# Altium integrated library Capacitor - Ceramic - Sumsung.IntLib: 1421 symbols (part 17 of 22)
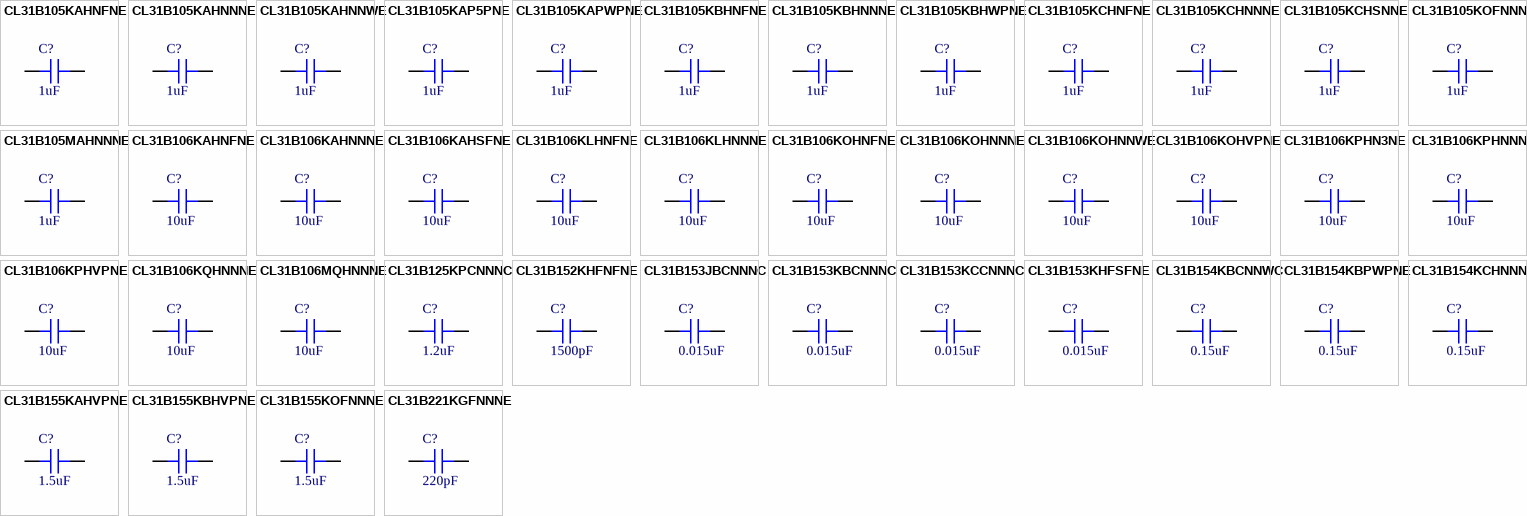
[diagram p51: symbols CL31B105KAHNFNE to CL31B221KGFNNNE]

## CL31B153KHFSFNE
designator C?, comment 0.015uF
CAP CER 0.015UF 630V X7R 1206; Part Number: CL31B153KHFSFNE; Manufacturer: Samsung Electro-Mechanics America, Inc.; TemperatureRange: -55C ~ 125C; Tolerance: 10%; Value: 0.015uF; PartId: 15499; Supplier 1: Digi-Key; Supplier Part Number 1: 1276-3112-2-ND; ComponentLink1Description: Datasheet; ComponentLink1URL: http://www.samsungsem.com/kr/support/library/product-catalog/__icsFiles/afieldfile/2015/11/18/MLCC.pdf; ComponentLink2Description: Digi-Key Listing; ComponentLink2URL: https://www.digikey.com/product-detail/en/samsung-electro-mechanics-america-inc/CL31B153KHFSFNE/1276-3112-2-ND/3888770; TemperatureCoefficient: X7R; Voltage: 630V; Price: 0.076; Device Package: 1206 (3216 Metric)
footprint CAP 1206/3216
pins: 1, 2

## CL31B154KBCNNWC
designator C?, comment 0.15uF
CAP CER 0.15UF 50V X7R 1206; Part Number: CL31B154KBCNNWC; Manufacturer: Samsung Electro-Mechanics America, Inc.; TemperatureRange: -55C ~ 125C; Tolerance: 10%; Value: 0.15uF; PartId: 17272; Supplier 1: Digi-Key; Supplier Part Number 1: 1276-2758-2-ND; ComponentLink1Description: Datasheet; ComponentLink1URL: http://www.samsungsem.com/kr/support/product-search/mlcc/__icsFiles/afieldfile/2016/08/18/S_CL31B154KBCNNWC.pdf; ComponentLink2Description: Digi-Key Listing; ComponentLink2URL: https://www.digikey.com/product-detail/en/samsung-electro-mechanics-america-inc/CL31B154KBCNNWC/1276-2758-2-ND/3888416; TemperatureCoefficient: X7R; Voltage: 50V; Price: 0.0235; Device Package: 1206 (3216 Metric)
footprint CAP 1206/3216 - 1.0MM
pins: 1, 2

## CL31B154KBPWPNE
designator C?, comment 0.15uF
CAP CER 0.15UF 50V X7R 1206; Part Number: CL31B154KBPWPNE; Manufacturer: Samsung Electro-Mechanics America, Inc.; TemperatureRange: -55C ~ 125C; Tolerance: 10%; Value: 0.15uF; PartId: 17761; Supplier 1: Digi-Key; Supplier Part Number 1: 1276-6676-2-ND; ComponentLink1Description: Datasheet; ComponentLink1URL: //media.digikey.com/pdf/Data%20Sheets/Samsung%20PDFs/MLCC_Catalog_2015.pdf; ComponentLink2Description: Digi-Key Listing; ComponentLink2URL: https://www.digikey.com/product-detail/en/samsung-electro-mechanics-america-inc/CL31B154KBPWPNE/1276-6676-2-ND/5961160; TemperatureCoefficient: X7R; Voltage: 50V; Price: 0.0662; Device Package: 1206 (3216 Metric)
footprint CAP 1206/3216 - 1.8MM
pins: 1, 2

## CL31B154KCHNNNE
designator C?, comment 0.15uF
CAP CER 0.15UF 100V X7R 1206; Part Number: CL31B154KCHNNNE; Manufacturer: Samsung Electro-Mechanics America, Inc.; TemperatureRange: -55C ~ 125C; Tolerance: 10%; Value: 0.15uF; PartId: 17964; Supplier 1: Digi-Key; Supplier Part Number 1: 1276-3114-2-ND; ComponentLink1Description: Datasheet; ComponentLink1URL: //media.digikey.com/pdf/Data%20Sheets/Samsung%20PDFs/CL31B154KCHNNNE_Character.pdf; ComponentLink2Description: Digi-Key Listing; ComponentLink2URL: https://www.digikey.com/product-detail/en/samsung-electro-mechanics-america-inc/CL31B154KCHNNNE/1276-3114-2-ND/3888772; TemperatureCoefficient: X7R; Voltage: 100V; Price: 0.0902; Device Package: 1206 (3216 Metric)
footprint CAP 1206/3216 - 1.8MM
pins: 1, 2

## CL31B155KAHVPNE
designator C?, comment 1.5uF
CAP CER 1.5UF 25V X7R 1206; Part Number: CL31B155KAHVPNE; Manufacturer: Samsung Electro-Mechanics America, Inc.; TemperatureRange: -55C ~ 125C; Tolerance: 10%; Value: 1.5uF; PartId: 17583; Supplier 1: Digi-Key; Supplier Part Number 1: 1276-6873-2-ND; ComponentLink1Description: Datasheet; ComponentLink1URL: //media.digikey.com/pdf/Data%20Sheets/Samsung%20PDFs/MLCC_Catalog_2015.pdf; ComponentLink2Description: Digi-Key Listing; ComponentLink2URL: https://www.digikey.com/product-detail/en/samsung-electro-mechanics-america-inc/CL31B155KAHVPNE/1276-6873-2-ND/5961357; TemperatureCoefficient: X7R; Voltage: 25V; Price: 0.0851; Device Package: 1206 (3216 Metric)
footprint CAP 1206/3216 - 1.8MM
pins: 1, 2

## CL31B155KBHVPNE
designator C?, comment 1.5uF
CAP CER 1.5UF 50V X7R 1206; Part Number: CL31B155KBHVPNE; Manufacturer: Samsung Electro-Mechanics America, Inc.; TemperatureRange: -55C ~ 125C; Tolerance: 10%; Value: 1.5uF; PartId: 17748; Supplier 1: Digi-Key; Supplier Part Number 1: 1276-6738-2-ND; ComponentLink1Description: Datasheet; ComponentLink1URL: //media.digikey.com/pdf/Data%20Sheets/Samsung%20PDFs/MLCC_Catalog_2015.pdf; ComponentLink2Description: Digi-Key Listing; ComponentLink2URL: https://www.digikey.com/product-detail/en/samsung-electro-mechanics-america-inc/CL31B155KBHVPNE/1276-6738-2-ND/5961222; TemperatureCoefficient: X7R; Voltage: 50V; Price: 0.1068; Device Package: 1206 (3216 Metric)
footprint CAP 1206/3216 - 1.8MM
pins: 1, 2

## CL31B155KOFNNNE
designator C?, comment 1.5uF
CAP CER 1.5UF 16V X7R 1206; Part Number: CL31B155KOFNNNE; Manufacturer: Samsung Electro-Mechanics America, Inc.; TemperatureRange: -55C ~ 125C; Tolerance: 10%; Value: 1.5uF; PartId: 6185; Supplier 1: Digi-Key; Supplier Part Number 1: 1276-3115-2-ND; ComponentLink1Description: Datasheet; ComponentLink1URL: http://media.digikey.com/pdf/Data%20Sheets/Samsung%20PDFs/CL31B155KOFNNNE_Character.pdf; ComponentLink2Description: Digi-Key listing; ComponentLink2URL: http://digikey.com/product-detail/en/CL31B155KOFNNNE/1276-3115-2-ND/3888773; TemperatureCoefficient: X7R; Voltage: 16V; Price: 0.0886; Type: -; Device Package: 1206 (3216 Metric)
footprint CAP 1206/3216
pins: 1, 2

## CL31B221KGFNNNE
designator C?, comment 220pF
CAP CER 220PF 500V X7R 1206; Part Number: CL31B221KGFNNNE; Manufacturer: Samsung Electro-Mechanics America, Inc.; TemperatureRange: -55C ~ 125C; Tolerance: 10%; Value: 220pF; PartId: 15488; Supplier 1: Digi-Key; Supplier Part Number 1: 1276-3116-2-ND; ComponentLink1Description: Datasheet; ComponentLink1URL: //media.digikey.com/pdf/Data%20Sheets/Samsung%20PDFs/CL31B221KGFNNNE_Spec.pdf; ComponentLink2Description: Digi-Key Listing; ComponentLink2URL: https://www.digikey.com/product-detail/en/samsung-electro-mechanics-america-inc/CL31B221KGFNNNE/1276-3116-2-ND/3888774; TemperatureCoefficient: X7R; Voltage: 500V; Price: 0.1119; Device Package: 1206 (3216 Metric)
footprint CAP 1206/3216
pins: 1, 2

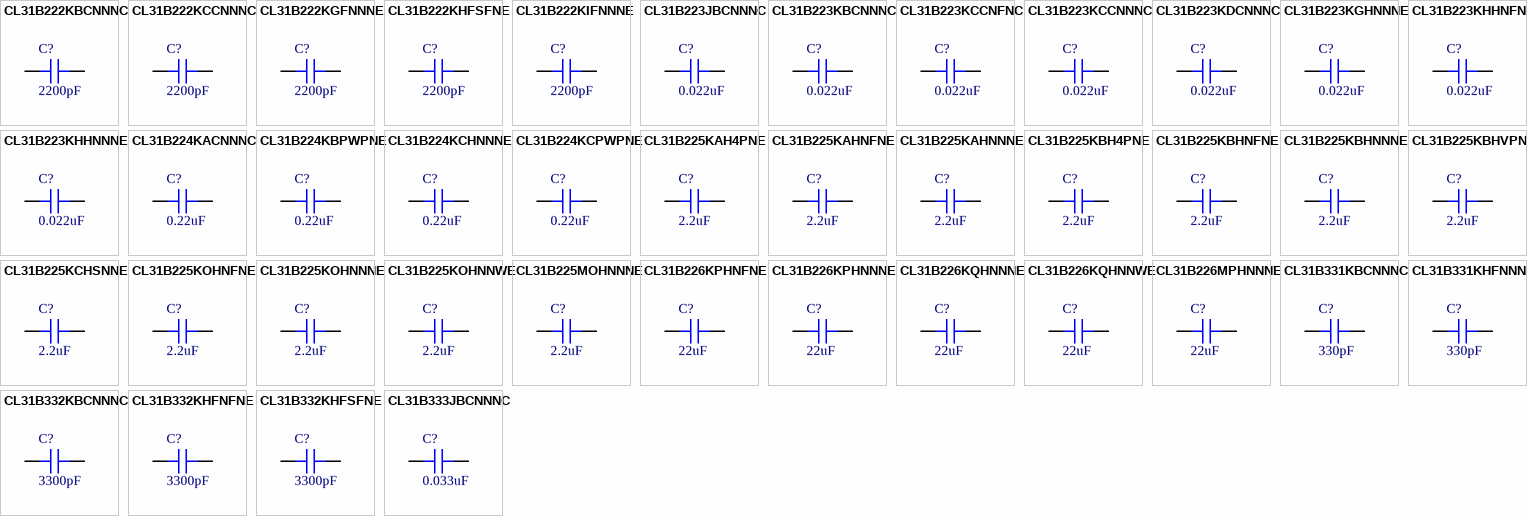
[diagram p27: symbols CL31B222KBCNNNC to CL31B333JBCNNNC]

## CL31B222KBCNNNC
designator C?, comment 2200pF
CAP CER 2200PF 50V X7R 1206; Part Number: CL31B222KBCNNNC; Manufacturer: Samsung Electro-Mechanics America, Inc.; TemperatureRange: -55C ~ 125C; Tolerance: 10%; Value: 2200pF; PartId: 17171; Supplier 1: Digi-Key; Supplier Part Number 1: 1276-1288-2-ND; ComponentLink1Description: Datasheet; ComponentLink1URL: http://www.samsungsem.com/kr/support/product-search/mlcc/__icsFiles/afieldfile/2016/08/18/S_CL31B222KBCNNNC.pdf; ComponentLink2Description: Digi-Key Listing; ComponentLink2URL: https://www.digikey.com/product-detail/en/samsung-electro-mechanics-america-inc/CL31B222KBCNNNC/1276-1288-2-ND/3886946; TemperatureCoefficient: X7R; Voltage: 50V; Price: 0.0325; Device Package: 1206 (3216 Metric)
footprint CAP 1206/3216 - 1.0MM
pins: 1, 2

## CL31B222KCCNNNC
designator C?, comment 2200pF
CAP CER 2200PF 100V X7R 1206; Part Number: CL31B222KCCNNNC; Manufacturer: Samsung Electro-Mechanics America, Inc.; TemperatureRange: -55C ~ 125C; Tolerance: 10%; Value: 2200pF; PartId: 17283; Supplier 1: Digi-Key; Supplier Part Number 1: 1276-2760-2-ND; ComponentLink1Description: Datasheet; ComponentLink1URL: //media.digikey.com/pdf/Data%20Sheets/Samsung%20PDFs/CL31B222KCCNNNC_Spec.pdf; ComponentLink2Description: Digi-Key Listing; ComponentLink2URL: https://www.digikey.com/product-detail/en/samsung-electro-mechanics-america-inc/CL31B222KCCNNNC/1276-2760-2-ND/3888418; TemperatureCoefficient: X7R; Voltage: 100V; Price: 0.0441; Device Package: 1206 (3216 Metric)
footprint CAP 1206/3216 - 1.0MM
pins: 1, 2

## CL31B222KGFNNNE
designator C?, comment 2200pF
CAP CER 2200PF 500V X7R 1206; Part Number: CL31B222KGFNNNE; Manufacturer: Samsung Electro-Mechanics America, Inc.; TemperatureRange: -55C ~ 125C; Tolerance: 10%; Value: 2200pF; PartId: 15434; Supplier 1: Digi-Key; Supplier Part Number 1: 1276-3118-2-ND; ComponentLink1Description: Datasheet; ComponentLink1URL: //media.digikey.com/pdf/Data%20Sheets/Samsung%20PDFs/CL31B222KGFNNNE_Spec.pdf; ComponentLink2Description: Digi-Key Listing; ComponentLink2URL: https://www.digikey.com/product-detail/en/samsung-electro-mechanics-america-inc/CL31B222KGFNNNE/1276-3118-2-ND/3888776; TemperatureCoefficient: X7R; Voltage: 500V; Price: 0.0443; Device Package: 1206 (3216 Metric)
footprint CAP 1206/3216
pins: 1, 2

## CL31B222KHFSFNE
designator C?, comment 2200pF
CAP CER 2200PF 630V X7R 1206; Part Number: CL31B222KHFSFNE; Manufacturer: Samsung Electro-Mechanics America, Inc.; TemperatureRange: -55C ~ 125C; Tolerance: 10%; Value: 2200pF; PartId: 15475; Supplier 1: Digi-Key; Supplier Part Number 1: 1276-3121-2-ND; ComponentLink1Description: Datasheet; ComponentLink1URL: //media.digikey.com/pdf/Data%20Sheets/Samsung%20PDFs/CL31B222KHFSFNE_Character.pdf; ComponentLink2Description: Digi-Key Listing; ComponentLink2URL: https://www.digikey.com/product-detail/en/samsung-electro-mechanics-america-inc/CL31B222KHFSFNE/1276-3121-2-ND/3888779; TemperatureCoefficient: X7R; Voltage: 630V; Price: 0.0345; Device Package: 1206 (3216 Metric)
footprint CAP 1206/3216
pins: 1, 2

## CL31B222KIFNNNE
designator C?, comment 2200pF
CAP CER 2200PF 1KV X7R 1206; Part Number: CL31B222KIFNNNE; Manufacturer: Samsung Electro-Mechanics America, Inc.; TemperatureRange: -55C ~ 125C; Tolerance: 10%; Voltage: 1000V (1kV); Value: 2200pF; PartId: 15461; Supplier 1: Digi-Key; Supplier Part Number 1: 1276-3122-2-ND; ComponentLink1Description: Datasheet; ComponentLink1URL: //media.digikey.com/pdf/Data%20Sheets/Samsung%20PDFs/CL31B222KIFNNNE_Spec.pdf; ComponentLink2Description: Digi-Key Listing; ComponentLink2URL: https://www.digikey.com/product-detail/en/samsung-electro-mechanics-america-inc/CL31B222KIFNNNE/1276-3122-2-ND/3888780; TemperatureCoefficient: X7R; Price: 0.0639; Device Package: 1206 (3216 Metric)
footprint CAP 1206/3216
pins: 1, 2

## CL31B223JBCNNNC
designator C?, comment 0.022uF
CAP CER 0.022UF 50V X7R 1206; Part Number: CL31B223JBCNNNC; Manufacturer: Samsung Electro-Mechanics America, Inc.; TemperatureRange: -55C ~ 125C; Tolerance: 5%; Value: 0.022uF; PartId: 17287; Supplier 1: Digi-Key; Supplier Part Number 1: 1276-2762-2-ND; ComponentLink1Description: Datasheet; ComponentLink1URL: http://www.samsungsem.com/kr/support/product-search/mlcc/__icsFiles/afieldfile/2016/08/18/S_CL31B223JBCNNNC.pdf; ComponentLink2Description: Digi-Key Listing; ComponentLink2URL: https://www.digikey.com/product-detail/en/samsung-electro-mechanics-america-inc/CL31B223JBCNNNC/1276-2762-2-ND/3888420; TemperatureCoefficient: X7R; Voltage: 50V; Price: 0.0365; Device Package: 1206 (3216 Metric)
footprint CAP 1206/3216 - 1.0MM
pins: 1, 2

## CL31B223KBCNNNC
designator C?, comment 0.022uF
CAP CER 0.022UF 50V X7R 1206; Part Number: CL31B223KBCNNNC; Manufacturer: Samsung Electro-Mechanics America, Inc.; TemperatureRange: -55C ~ 125C; Tolerance: 10%; Value: 0.022uF; PartId: 17054; Supplier 1: Digi-Key; Supplier Part Number 1: 1276-1142-2-ND; ComponentLink1Description: Datasheet; ComponentLink1URL: http://www.samsungsem.com/kr/support/product-search/mlcc/__icsFiles/afieldfile/2016/08/18/S_CL31B223KBCNNNC.pdf; ComponentLink2Description: Digi-Key Listing; ComponentLink2URL: https://www.digikey.com/product-detail/en/samsung-electro-mechanics-america-inc/CL31B223KBCNNNC/1276-1142-2-ND/3886800; TemperatureCoefficient: X7R; Voltage: 50V; Price: 0.035; Device Package: 1206 (3216 Metric)
footprint CAP 1206/3216 - 1.0MM
pins: 1, 2

## CL31B223KCCNFNC
designator C?, comment 0.022uF
CAP CER 0.022UF 100V X7R 1206; Part Number: CL31B223KCCNFNC; Manufacturer: Samsung Electro-Mechanics America, Inc.; TemperatureRange: -55C ~ 125C; Tolerance: 10%; Value: 0.022uF; PartId: 17107; Supplier 1: Digi-Key; Supplier Part Number 1: 1276-2763-2-ND; ComponentLink1Description: Datasheet; ComponentLink1URL: //media.digikey.com/pdf/Data%20Sheets/Samsung%20PDFs/CL31B223KCCNFNC_Spec.pdf; ComponentLink2Description: Digi-Key Listing; ComponentLink2URL: https://www.digikey.com/product-detail/en/samsung-electro-mechanics-america-inc/CL31B223KCCNFNC/1276-2763-2-ND/3888421; TemperatureCoefficient: X7R; Voltage: 100V; Price: 0.0365; Device Package: 1206 (3216 Metric)
footprint CAP 1206/3216 - 1.0MM
pins: 1, 2

## CL31B223KCCNNNC
designator C?, comment 0.022uF
CAP CER 0.022UF 100V X7R 1206; Part Number: CL31B223KCCNNNC; Manufacturer: Samsung Electro-Mechanics America, Inc.; TemperatureRange: -55C ~ 125C; Tolerance: 10%; Value: 0.022uF; PartId: 17053; Supplier 1: Digi-Key; Supplier Part Number 1: 1276-2764-2-ND; ComponentLink1Description: Datasheet; ComponentLink1URL: //media.digikey.com/pdf/Data%20Sheets/Samsung%20PDFs/CL31B223KCCNNNC_Spec.pdf; ComponentLink2Description: Digi-Key Listing; ComponentLink2URL: https://www.digikey.com/product-detail/en/samsung-electro-mechanics-america-inc/CL31B223KCCNNNC/1276-2764-2-ND/3888422; TemperatureCoefficient: X7R; Voltage: 100V; Price: 0.0365; Device Package: 1206 (3216 Metric)
footprint CAP 1206/3216 - 1.0MM
pins: 1, 2

## CL31B223KDCNNNC
designator C?, comment 0.022uF
CAP CER 0.022UF 200V X7R 1206; Part Number: CL31B223KDCNNNC; Manufacturer: Samsung Electro-Mechanics America, Inc.; TemperatureRange: -55C ~ 125C; Tolerance: 10%; Value: 0.022uF; PartId: 15467; Supplier 1: Digi-Key; Supplier Part Number 1: 1276-2765-2-ND; ComponentLink1Description: Datasheet; ComponentLink1URL: //media.digikey.com/pdf/Data%20Sheets/Samsung%20PDFs/CL31B223KDCNNNC_Spec.pdf; ComponentLink2Description: Digi-Key Listing; ComponentLink2URL: https://www.digikey.com/product-detail/en/samsung-electro-mechanics-america-inc/CL31B223KDCNNNC/1276-2765-2-ND/3888423; TemperatureCoefficient: X7R; Voltage: 200V; Price: 0.0755; Device Package: 1206 (3216 Metric)
footprint CAP 1206/3216
pins: 1, 2

## CL31B223KGHNNNE
designator C?, comment 0.022uF
CAP CER 0.022UF 500V X7R 1206; Part Number: CL31B223KGHNNNE; Manufacturer: Samsung Electro-Mechanics America, Inc.; TemperatureRange: -55C ~ 125C; Tolerance: 10%; Value: 0.022uF; PartId: 15445; Supplier 1: Digi-Key; Supplier Part Number 1: 1276-3124-2-ND; ComponentLink1Description: Datasheet; ComponentLink1URL: //media.digikey.com/pdf/Data%20Sheets/Samsung%20PDFs/CL31B223KGHNNNE_Spec.pdf; ComponentLink2Description: Digi-Key Listing; ComponentLink2URL: https://www.digikey.com/product-detail/en/samsung-electro-mechanics-america-inc/CL31B223KGHNNNE/1276-3124-2-ND/3888782; TemperatureCoefficient: X7R; Voltage: 500V; Price: 0.054; Device Package: 1206 (3216 Metric)
footprint CAP 1206/3216
pins: 1, 2

## CL31B223KHHNFNE
designator C?, comment 0.022uF
CAP CER 0.022UF 630V X7R 1206; Part Number: CL31B223KHHNFNE; Manufacturer: Samsung Electro-Mechanics America, Inc.; TemperatureRange: -55C ~ 125C; Tolerance: 10%; Value: 0.022uF; PartId: 15512; Supplier 1: Digi-Key; Supplier Part Number 1: 1276-3125-2-ND; ComponentLink1Description: Datasheet; ComponentLink1URL: //media.digikey.com/pdf/Data%20Sheets/Samsung%20PDFs/CL31B223KHHNFNE_Spec.pdf; ComponentLink2Description: Digi-Key Listing; ComponentLink2URL: https://www.digikey.com/product-detail/en/samsung-electro-mechanics-america-inc/CL31B223KHHNFNE/1276-3125-2-ND/3888783; TemperatureCoefficient: X7R; Voltage: 630V; Price: 0.054; Device Package: 1206 (3216 Metric)
footprint CAP 1206/3216
pins: 1, 2

## CL31B223KHHNNNE
designator C?, comment 0.022uF
CAP CER 0.022UF 630V X7R 1206; Part Number: CL31B223KHHNNNE; Manufacturer: Samsung Electro-Mechanics America, Inc.; TemperatureRange: -55C ~ 125C; Tolerance: 10%; Value: 0.022uF; PartId: 15443; Supplier 1: Digi-Key; Supplier Part Number 1: 1276-3126-2-ND; ComponentLink1Description: Datasheet; ComponentLink1URL: http://www.samsungsem.com/kr/support/product-search/mlcc/CL31B223KHHNNNE.jsp; ComponentLink2Description: Digi-Key Listing; ComponentLink2URL: https://www.digikey.com/product-detail/en/samsung-electro-mechanics-america-inc/CL31B223KHHNNNE/1276-3126-2-ND/3888784; TemperatureCoefficient: X7R; Voltage: 630V; Price: 0.054; Device Package: 1206 (3216 Metric)
footprint CAP 1206/3216
pins: 1, 2

## CL31B224KACNNNC
designator C?, comment 0.22uF
CAP CER 0.22UF 25V X7R 1206; Part Number: CL31B224KACNNNC; Manufacturer: Samsung Electro-Mechanics America, Inc.; TemperatureRange: -55C ~ 125C; Tolerance: 10%; Value: 0.22uF; PartId: 17106; Supplier 1: Digi-Key; Supplier Part Number 1: 1276-1839-2-ND; ComponentLink1Description: Datasheet; ComponentLink1URL: http://www.samsungsem.com/kr/support/product-search/mlcc/__icsFiles/afieldfile/2016/08/18/S_CL31B224KACNNNC.pdf; ComponentLink2Description: Digi-Key Listing; ComponentLink2URL: https://www.digikey.com/product-detail/en/samsung-electro-mechanics-america-inc/CL31B224KACNNNC/1276-1839-2-ND/3887497; TemperatureCoefficient: X7R; Voltage: 25V; Price: 0.0382; Device Package: 1206 (3216 Metric)
footprint CAP 1206/3216 - 1.0MM
pins: 1, 2

## CL31B224KBPWPNE
designator C?, comment 0.22uF
CAP CER 0.22UF 50V X7R 1206; Part Number: CL31B224KBPWPNE; Manufacturer: Samsung Electro-Mechanics America, Inc.; TemperatureRange: -55C ~ 125C; Tolerance: 10%; Value: 0.22uF; PartId: 17760; Supplier 1: Digi-Key; Supplier Part Number 1: 1276-6677-2-ND; ComponentLink1Description: Datasheet; ComponentLink1URL: //media.digikey.com/pdf/Data%20Sheets/Samsung%20PDFs/MLCC_Catalog_2015.pdf; ComponentLink2Description: Digi-Key Listing; ComponentLink2URL: https://www.digikey.com/product-detail/en/samsung-electro-mechanics-america-inc/CL31B224KBPWPNE/1276-6677-2-ND/5961161; TemperatureCoefficient: X7R; Voltage: 50V; Price: 0.0662; Device Package: 1206 (3216 Metric)
footprint CAP 1206/3216 - 1.8MM
pins: 1, 2

## CL31B224KCHNNNE
designator C?, comment 0.22uF
CAP CER 0.22UF 100V X7R 1206; Part Number: CL31B224KCHNNNE; Manufacturer: Samsung Electro-Mechanics America, Inc.; TemperatureRange: -55C ~ 125C; Tolerance: 10%; Value: 0.22uF; PartId: 17948; Supplier 1: Digi-Key; Supplier Part Number 1: 1276-3132-2-ND; ComponentLink1Description: Datasheet; ComponentLink1URL: //media.digikey.com/pdf/Data%20Sheets/Samsung%20PDFs/CL31B224KCHNNNE_Spec.pdf; ComponentLink2Description: Digi-Key Listing; ComponentLink2URL: https://www.digikey.com/product-detail/en/samsung-electro-mechanics-america-inc/CL31B224KCHNNNE/1276-3132-2-ND/3888790; TemperatureCoefficient: X7R; Voltage: 100V; Price: 0.1255; Device Package: 1206 (3216 Metric)
footprint CAP 1206/3216 - 1.8MM
pins: 1, 2

## CL31B224KCPWPNE
designator C?, comment 0.22uF
CAP CER 0.22UF 100V X7R 1206; Part Number: CL31B224KCPWPNE; Manufacturer: Samsung Electro-Mechanics America, Inc.; TemperatureRange: -55C ~ 125C; Tolerance: 10%; Value: 0.22uF; PartId: 17758; Supplier 1: Digi-Key; Supplier Part Number 1: 1276-6696-2-ND; ComponentLink1Description: Datasheet; ComponentLink1URL: //media.digikey.com/pdf/Data%20Sheets/Samsung%20PDFs/MLCC_Catalog_2015.pdf; ComponentLink2Description: Digi-Key Listing; ComponentLink2URL: https://www.digikey.com/product-detail/en/samsung-electro-mechanics-america-inc/CL31B224KCPWPNE/1276-6696-2-ND/5961180; TemperatureCoefficient: X7R; Voltage: 100V; Price: 0.0819; Device Package: 1206 (3216 Metric)
footprint CAP 1206/3216 - 1.8MM
pins: 1, 2

## CL31B225KAH4PNE
designator C?, comment 2.2uF
CAP CER 2.2UF 25V X7R 1206; Part Number: CL31B225KAH4PNE; Manufacturer: Samsung Electro-Mechanics America, Inc.; TemperatureRange: -55C ~ 125C; Tolerance: 10%; Type: Open Mode, Soft Termination; Value: 2.2uF; PartId: 6221; Supplier 1: Digi-Key; Supplier Part Number 1: 1276-3133-2-ND; ComponentLink1Description: Datasheet; ComponentLink1URL: http://media.digikey.com/pdf/Data%20Sheets/Samsung%20PDFs/CL31B225KAH4PNE_Spec.pdf; ComponentLink2Description: Digi-Key listing; ComponentLink2URL: http://digikey.com/product-detail/en/CL31B225KAH4PNE/1276-3133-2-ND/3888791; TemperatureCoefficient: X7R; Voltage: 25V; Price: 0.1712; Device Package: 1206 (3216 Metric)
footprint CAP 1206/3216
pins: 1, 2

## CL31B225KAHNFNE
designator C?, comment 2.2uF
CAP CER 2.2UF 25V X7R 1206; Part Number: CL31B225KAHNFNE; Manufacturer: Samsung Electro-Mechanics America, Inc.; TemperatureRange: -55C ~ 125C; Tolerance: 10%; Value: 2.2uF; PartId: 17980; Supplier 1: Digi-Key; Supplier Part Number 1: 1276-3134-2-ND; ComponentLink1Description: Datasheet; ComponentLink1URL: //media.digikey.com/pdf/Data%20Sheets/Samsung%20PDFs/CL31B225KAHNFNE_Spec.pdf; ComponentLink2Description: Digi-Key Listing; ComponentLink2URL: https://www.digikey.com/product-detail/en/samsung-electro-mechanics-america-inc/CL31B225KAHNFNE/1276-3134-2-ND/3888792; TemperatureCoefficient: X7R; Voltage: 25V; Price: 0.0654; Device Package: 1206 (3216 Metric)
footprint CAP 1206/3216 - 1.8MM
pins: 1, 2

## CL31B225KAHNNNE
designator C?, comment 2.2uF
CAP CER 2.2UF 25V X7R 1206; Part Number: CL31B225KAHNNNE; Manufacturer: Samsung Electro-Mechanics America, Inc.; TemperatureRange: -55C ~ 125C; Tolerance: 10%; Value: 2.2uF; PartId: 6168; Supplier 1: Digi-Key; Supplier Part Number 1: 1276-1072-2-ND; ComponentLink1Description: Datasheet; ComponentLink1URL: http://www.samsungsem.com/kr/front/downloadcms.do?path=/kr/support/product-search/mlcc/__icsFiles/afieldfile/2014/11/05&fileName=C_CL31B225KAHNNNE.pdf; ComponentLink2Description: Digi-Key listing; ComponentLink2URL: http://digikey.com/product-detail/en/CL31B225KAHNNNE/1276-1072-2-ND/3886730; TemperatureCoefficient: X7R; Voltage: 25V; Price: 0.0624; Type: -; Device Package: 1206 (3216 Metric)
footprint CAP 1206/3216
pins: 1, 2

## CL31B225KBH4PNE
designator C?, comment 2.2uF
CAP CER 2.2UF 50V X7R 1206; Part Number: CL31B225KBH4PNE; Manufacturer: Samsung Electro-Mechanics America, Inc.; TemperatureRange: -55C ~ 125C; Tolerance: 10%; Type: Open Mode, Soft Termination; Value: 2.2uF; PartId: 6224; Supplier 1: Digi-Key; Supplier Part Number 1: 1276-3136-2-ND; ComponentLink1Description: Datasheet; ComponentLink1URL: http://media.digikey.com/pdf/Data%20Sheets/Samsung%20PDFs/CL31B225KBH4PNE_Spec.pdf; ComponentLink2Description: Digi-Key listing; ComponentLink2URL: http://digikey.com/product-detail/en/CL31B225KBH4PNE/1276-3136-2-ND/3888794; TemperatureCoefficient: X7R; Voltage: 50V; Price: 0.1763; Device Package: 1206 (3216 Metric)
footprint CAP 1206/3216
pins: 1, 2

## CL31B225KBHNFNE
designator C?, comment 2.2uF
CAP CER 2.2UF 50V X7R 1206; Part Number: CL31B225KBHNFNE; Manufacturer: Samsung Electro-Mechanics America, Inc.; TemperatureRange: -55C ~ 125C; Tolerance: 10%; Value: 2.2uF; PartId: 17650; Supplier 1: Digi-Key; Supplier Part Number 1: 1276-3137-2-ND; ComponentLink1Description: Datasheet; ComponentLink1URL: //media.digikey.com/pdf/Data%20Sheets/Samsung%20PDFs/CL31B225KBHNFNE_Spec.pdf; ComponentLink2Description: Digi-Key Listing; ComponentLink2URL: https://www.digikey.com/product-detail/en/samsung-electro-mechanics-america-inc/CL31B225KBHNFNE/1276-3137-2-ND/3888795; TemperatureCoefficient: X7R; Voltage: 50V; Price: 0.0695; Device Package: 1206 (3216 Metric)
footprint CAP 1206/3216 - 1.8MM
pins: 1, 2

## CL31B225KBHNNNE
designator C?, comment 2.2uF
CAP CER 2.2UF 50V X7R 1206; Part Number: CL31B225KBHNNNE; Manufacturer: Samsung Electro-Mechanics America, Inc.; TemperatureRange: -55C ~ 125C; Tolerance: 10%; Value: 2.2uF; PartId: 6173; Supplier 1: Digi-Key; Supplier Part Number 1: 1276-1291-2-ND; ComponentLink1Description: Datasheet; ComponentLink1URL: http://www.samsungsem.com/kr/front/downloadcms.do?path=/kr/support/product-search/mlcc/__icsFiles/afieldfile/2014/11/05&fileName=C_CL31B225KBHNNNE.pdf; ComponentLink2Description: Digi-Key listing; ComponentLink2URL: http://digikey.com/product-detail/en/CL31B225KBHNNNE/1276-1291-2-ND/3886949; TemperatureCoefficient: X7R; Voltage: 50V; Price: 0.0663; Type: -; Device Package: 1206 (3216 Metric)
footprint CAP 1206/3216
pins: 1, 2

## CL31B225KBHVPNE
designator C?, comment 2.2uF
CAP CER 2.2UF 50V X7R 1206; Part Number: CL31B225KBHVPNE; Manufacturer: Samsung Electro-Mechanics America, Inc.; TemperatureRange: -55C ~ 125C; Tolerance: 10%; Value: 2.2uF; PartId: 17750; Supplier 1: Digi-Key; Supplier Part Number 1: 1276-6735-2-ND; ComponentLink1Description: Datasheet; ComponentLink1URL: //media.digikey.com/pdf/Data%20Sheets/Samsung%20PDFs/MLCC_Catalog_2015.pdf; ComponentLink2Description: Digi-Key Listing; ComponentLink2URL: https://www.digikey.com/product-detail/en/samsung-electro-mechanics-america-inc/CL31B225KBHVPNE/1276-6735-2-ND/5961219; TemperatureCoefficient: X7R; Voltage: 50V; Price: 0.1068; Device Package: 1206 (3216 Metric)
footprint CAP 1206/3216 - 1.8MM
pins: 1, 2

## CL31B225KCHSNNE
designator C?, comment 2.2uF
CAP CER 2.2UF 100V X7R 1206; Part Number: CL31B225KCHSNNE; Manufacturer: Samsung Electro-Mechanics America, Inc.; TemperatureRange: -55C ~ 125C; Tolerance: 10%; Value: 2.2uF; PartId: 6260; Supplier 1: Digi-Key; Supplier Part Number 1: 1276-3138-2-ND; ComponentLink1Description: Datasheet; ComponentLink1URL: http://media.digikey.com/pdf/Data%20Sheets/Samsung%20PDFs/CL31B225KCHSNNE_Spec.pdf; ComponentLink2Description: Digi-Key listing; ComponentLink2URL: http://digikey.com/product-detail/en/CL31B225KCHSNNE/1276-3138-2-ND/3888796; TemperatureCoefficient: X7R; Voltage: 100V; Price: 0.3227; Type: -; Device Package: 1206 (3216 Metric)
footprint CAP 1206/3216
pins: 1, 2

## CL31B225KOHNFNE
designator C?, comment 2.2uF
CAP CER 2.2UF 16V X7R 1206; Part Number: CL31B225KOHNFNE; Manufacturer: Samsung Electro-Mechanics America, Inc.; TemperatureRange: -55C ~ 125C; Tolerance: 10%; Value: 2.2uF; PartId: 17623; Supplier 1: Digi-Key; Supplier Part Number 1: 1276-3140-2-ND; ComponentLink1Description: Datasheet; ComponentLink1URL: //media.digikey.com/pdf/Data%20Sheets/Samsung%20PDFs/CL31B225KOHNFNE_Spec.pdf; ComponentLink2Description: Digi-Key Listing; ComponentLink2URL: https://www.digikey.com/product-detail/en/samsung-electro-mechanics-america-inc/CL31B225KOHNFNE/1276-3140-2-ND/3888798; TemperatureCoefficient: X7R; Voltage: 16V; Price: 0.0562; Device Package: 1206 (3216 Metric)
footprint CAP 1206/3216 - 1.8MM
pins: 1, 2

## CL31B225KOHNNNE
designator C?, comment 2.2uF
CAP CER 2.2UF 16V X7R 1206; Part Number: CL31B225KOHNNNE; Manufacturer: Samsung Electro-Mechanics America, Inc.; TemperatureRange: -55C ~ 125C; Tolerance: 10%; Value: 2.2uF; PartId: 17506; Supplier 1: Digi-Key; Supplier Part Number 1: 1276-1264-2-ND; ComponentLink1Description: Datasheet; ComponentLink1URL: http://www.samsungsem.com/kr/front/downloadcms.do?path=/kr/support/product-search/mlcc/__icsFiles/afieldfile/2014/11/05&fileName=C_CL31B225KOHNNNE.pdf; ComponentLink2Description: Digi-Key Listing; ComponentLink2URL: https://www.digikey.com/product-detail/en/samsung-electro-mechanics-america-inc/CL31B225KOHNNNE/1276-1264-2-ND/3886922; TemperatureCoefficient: X7R; Voltage: 16V; Price: 0.0562; Device Package: 1206 (3216 Metric)
footprint CAP 1206/3216 - 1.8MM
pins: 1, 2

## CL31B225KOHNNWE
designator C?, comment 2.2uF
CAP CER 2.2UF 16V X7R 1206; Part Number: CL31B225KOHNNWE; Manufacturer: Samsung Electro-Mechanics America, Inc.; TemperatureRange: -55C ~ 125C; Tolerance: 10%; Value: 2.2uF; PartId: 17899; Supplier 1: Digi-Key; Supplier Part Number 1: 1276-3141-2-ND; ComponentLink1Description: Datasheet; ComponentLink1URL: //media.digikey.com/pdf/Data%20Sheets/Samsung%20PDFs/CL31B225KOHNNWE_Spec.pdf; ComponentLink2Description: Digi-Key Listing; ComponentLink2URL: https://www.digikey.com/product-detail/en/samsung-electro-mechanics-america-inc/CL31B225KOHNNWE/1276-3141-2-ND/3888799; TemperatureCoefficient: X7R; Voltage: 16V; Price: 0.0562; Device Package: 1206 (3216 Metric)
footprint CAP 1206/3216 - 1.8MM
pins: 1, 2

## CL31B225MOHNNNE
designator C?, comment 2.2uF
CAP CER 2.2UF 16V X7R 1206; Part Number: CL31B225MOHNNNE; Manufacturer: Samsung Electro-Mechanics America, Inc.; TemperatureRange: -55C ~ 125C; Tolerance: 20%; Value: 2.2uF; PartId: 6166; Supplier 1: Digi-Key; Supplier Part Number 1: 1276-3143-2-ND; ComponentLink1Description: Datasheet; ComponentLink1URL: http://media.digikey.com/pdf/Data%20Sheets/Samsung%20PDFs/CL31B225MOHNNNE_Spec.pdf; ComponentLink2Description: Digi-Key listing; ComponentLink2URL: http://digikey.com/product-detail/en/CL31B225MOHNNNE/1276-3143-2-ND/3888801; TemperatureCoefficient: X7R; Voltage: 16V; Price: 0.0537; Type: -; Device Package: 1206 (3216 Metric)
footprint CAP 1206/3216
pins: 1, 2

## CL31B226KPHNFNE
designator C?, comment 22uF
CAP CER 22UF 10V X7R 1206; Part Number: CL31B226KPHNFNE; Manufacturer: Samsung Electro-Mechanics America, Inc.; TemperatureRange: -55C ~ 125C; Tolerance: 10%; Value: 22uF; PartId: 15910; Supplier 1: Digi-Key; Supplier Part Number 1: 1276-3145-2-ND; ComponentLink1Description: Datasheet; ComponentLink1URL: //media.digikey.com/pdf/Data%20Sheets/Samsung%20PDFs/CL31B226KPHNFNE_Character.pdf; ComponentLink2Description: Digi-Key Listing; ComponentLink2URL: https://www.digikey.com/product-detail/en/samsung-electro-mechanics-america-inc/CL31B226KPHNFNE/1276-3145-2-ND/3888803; TemperatureCoefficient: X7R; Voltage: 10V; Price: 0.1682; Device Package: 1206 (3216 Metric)
footprint CAP 1206/3216
pins: 1, 2

## CL31B226KPHNNNE
designator C?, comment 22uF
CAP CER 22UF 10V X7R 1206; Part Number: CL31B226KPHNNNE; Manufacturer: Samsung Electro-Mechanics America, Inc.; TemperatureRange: -55C ~ 125C; Tolerance: 10%; Value: 22uF; PartId: 6218; Supplier 1: Digi-Key; Supplier Part Number 1: 1276-2769-2-ND; ComponentLink1Description: Datasheet; ComponentLink1URL: http://www.samsungsem.com/kr/support/product-search/mlcc/CL31B226KPHNNNE.jsp; ComponentLink2Description: Digi-Key listing; ComponentLink2URL: http://digikey.com/product-detail/en/CL31B226KPHNNNE/1276-2769-2-ND/3888427; TemperatureCoefficient: X7R; Voltage: 10V; Price: 0.1652; Type: -; Device Package: 1206 (3216 Metric)
footprint CAP 1206/3216
pins: 1, 2

## CL31B226KQHNNNE
designator C?, comment 22uF
CAP CER 22UF 6.3V X7R 1206; Part Number: CL31B226KQHNNNE; Manufacturer: Samsung Electro-Mechanics America, Inc.; TemperatureRange: -55C ~ 125C; Tolerance: 10%; Value: 22uF; PartId: 15909; Supplier 1: Digi-Key; Supplier Part Number 1: 1276-3146-2-ND; ComponentLink1Description: Datasheet; ComponentLink1URL: //media.digikey.com/pdf/Data%20Sheets/Samsung%20PDFs/CL31B226KQHNNNE_Spec.pdf; ComponentLink2Description: Digi-Key Listing; ComponentLink2URL: https://www.digikey.com/product-detail/en/samsung-electro-mechanics-america-inc/CL31B226KQHNNNE/1276-3146-2-ND/3888804; TemperatureCoefficient: X7R; Voltage: 6.3V; Price: 0.1682; Device Package: 1206 (3216 Metric)
footprint CAP 1206/3216
pins: 1, 2

## CL31B226KQHNNWE
designator C?, comment 22uF
CAP CER 22UF 6.3V X7R 1206; Part Number: CL31B226KQHNNWE; Manufacturer: Samsung Electro-Mechanics America, Inc.; TemperatureRange: -55C ~ 125C; Tolerance: 10%; Value: 22uF; PartId: 15990; Supplier 1: Digi-Key; Supplier Part Number 1: 1276-3147-2-ND; ComponentLink1Description: Datasheet; ComponentLink1URL: //media.digikey.com/pdf/Data%20Sheets/Samsung%20PDFs/CL31B226KQHNNWE_Character.pdf; ComponentLink2Description: Digi-Key Listing; ComponentLink2URL: https://www.digikey.com/product-detail/en/samsung-electro-mechanics-america-inc/CL31B226KQHNNWE/1276-3147-2-ND/3888805; TemperatureCoefficient: X7R; Voltage: 6.3V; Price: 0.1682; Device Package: 1206 (3216 Metric)
footprint CAP 1206/3216
pins: 1, 2

## CL31B226MPHNNNE
designator C?, comment 22uF
CAP CER 22UF 10V X7R 1206; Part Number: CL31B226MPHNNNE; Manufacturer: Samsung Electro-Mechanics America, Inc.; TemperatureRange: -55C ~ 125C; Tolerance: 20%; Value: 22uF; PartId: 15898; Supplier 1: Digi-Key; Supplier Part Number 1: 1276-3148-2-ND; ComponentLink1Description: Datasheet; ComponentLink1URL: //media.digikey.com/pdf/Data%20Sheets/Samsung%20PDFs/CL31B226MPHNNNE_Character.pdf; ComponentLink2Description: Digi-Key Listing; ComponentLink2URL: https://www.digikey.com/product-detail/en/samsung-electro-mechanics-america-inc/CL31B226MPHNNNE/1276-3148-2-ND/3888806; TemperatureCoefficient: X7R; Voltage: 10V; Price: 0.1441; Device Package: 1206 (3216 Metric)
footprint CAP 1206/3216
pins: 1, 2

## CL31B331KBCNNNC
designator C?, comment 330pF
CAP CER 330PF 50V X7R 1206; Part Number: CL31B331KBCNNNC; Manufacturer: Samsung Electro-Mechanics America, Inc.; TemperatureRange: -55C ~ 125C; Tolerance: 10%; Value: 330pF; PartId: 17292; Supplier 1: Digi-Key; Supplier Part Number 1: 1276-2771-2-ND; ComponentLink1Description: Datasheet; ComponentLink1URL: http://www.samsungsem.com/kr/support/product-search/mlcc/__icsFiles/afieldfile/2016/08/18/S_CL31B331KBCNNNC.pdf; ComponentLink2Description: Digi-Key Listing; ComponentLink2URL: https://www.digikey.com/product-detail/en/samsung-electro-mechanics-america-inc/CL31B331KBCNNNC/1276-2771-2-ND/3888429; TemperatureCoefficient: X7R; Voltage: 50V; Price: 0.0325; Device Package: 1206 (3216 Metric)
footprint CAP 1206/3216 - 1.0MM
pins: 1, 2

## CL31B331KHFNNNE
designator C?, comment 330pF
CAP CER 330PF 630V X7R 1206; Part Number: CL31B331KHFNNNE; Manufacturer: Samsung Electro-Mechanics America, Inc.; TemperatureRange: -55C ~ 125C; Tolerance: 10%; Value: 330pF; PartId: 15479; Supplier 1: Digi-Key; Supplier Part Number 1: 1276-3150-2-ND; ComponentLink1Description: Datasheet; ComponentLink1URL: //media.digikey.com/pdf/Data%20Sheets/Samsung%20PDFs/CL31B331KHFNNNE_Spec.pdf; ComponentLink2Description: Digi-Key Listing; ComponentLink2URL: https://www.digikey.com/product-detail/en/samsung-electro-mechanics-america-inc/CL31B331KHFNNNE/1276-3150-2-ND/3888808; TemperatureCoefficient: X7R; Voltage: 630V; Price: 0.0495; Device Package: 1206 (3216 Metric)
footprint CAP 1206/3216
pins: 1, 2

## CL31B332KBCNNNC
designator C?, comment 3300pF
CAP CER 3300PF 50V X7R 1206; Part Number: CL31B332KBCNNNC; Manufacturer: Samsung Electro-Mechanics America, Inc.; TemperatureRange: -55C ~ 125C; Tolerance: 10%; Value: 3300pF; PartId: 17170; Supplier 1: Digi-Key; Supplier Part Number 1: 1276-2772-2-ND; ComponentLink1Description: Datasheet; ComponentLink1URL: http://www.samsungsem.com/kr/support/product-search/mlcc/__icsFiles/afieldfile/2016/08/18/S_CL31B332KBCNNNC.pdf; ComponentLink2Description: Digi-Key Listing; ComponentLink2URL: https://www.digikey.com/product-detail/en/samsung-electro-mechanics-america-inc/CL31B332KBCNNNC/1276-2772-2-ND/3888430; TemperatureCoefficient: X7R; Voltage: 50V; Price: 0.0325; Device Package: 1206 (3216 Metric)
footprint CAP 1206/3216 - 1.0MM
pins: 1, 2

## CL31B332KHFNFNE
designator C?, comment 3300pF
CAP CER 3300PF 630V X7R 1206; Part Number: CL31B332KHFNFNE; Manufacturer: Samsung Electro-Mechanics America, Inc.; TemperatureRange: -55C ~ 125C; Tolerance: 10%; Value: 3300pF; PartId: 15509; Supplier 1: Digi-Key; Supplier Part Number 1: 1276-3153-2-ND; ComponentLink1Description: Datasheet; ComponentLink1URL: //media.digikey.com/pdf/Data%20Sheets/Samsung%20PDFs/CL31B332KHFNFNE_Character.pdf; ComponentLink2Description: Digi-Key Listing; ComponentLink2URL: https://www.digikey.com/product-detail/en/samsung-electro-mechanics-america-inc/CL31B332KHFNFNE/1276-3153-2-ND/3888811; TemperatureCoefficient: X7R; Voltage: 630V; Price: 0.0343; Device Package: 1206 (3216 Metric)
footprint CAP 1206/3216
pins: 1, 2

## CL31B332KHFSFNE
designator C?, comment 3300pF
CAP CER 3300PF 630V X7R 1206; Part Number: CL31B332KHFSFNE; Manufacturer: Samsung Electro-Mechanics America, Inc.; TemperatureRange: -55C ~ 125C; Tolerance: 10%; Value: 3300pF; PartId: 15510; Supplier 1: Digi-Key; Supplier Part Number 1: 1276-3154-2-ND; ComponentLink1Description: Datasheet; ComponentLink1URL: //media.digikey.com/pdf/Data%20Sheets/Samsung%20PDFs/CL31B332KHFSFNE_Character.pdf; ComponentLink2Description: Digi-Key Listing; ComponentLink2URL: https://www.digikey.com/product-detail/en/samsung-electro-mechanics-america-inc/CL31B332KHFSFNE/1276-3154-2-ND/3888812; TemperatureCoefficient: X7R; Voltage: 630V; Price: 0.0343; Device Package: 1206 (3216 Metric)
footprint CAP 1206/3216
pins: 1, 2

## CL31B333JBCNNNC
designator C?, comment 0.033uF
CAP CER 0.033UF 50V X7R 1206; Part Number: CL31B333JBCNNNC; Manufacturer: Samsung Electro-Mechanics America, Inc.; TemperatureRange: -55C ~ 125C; Tolerance: 5%; Value: 0.033uF; PartId: 17165; Supplier 1: Digi-Key; Supplier Part Number 1: 1276-1774-2-ND; ComponentLink1Description: Datasheet; ComponentLink1URL: http://www.samsungsem.com/kr/support/product-search/mlcc/__icsFiles/afieldfile/2016/08/18/S_CL31B333JBCNNNC.pdf; ComponentLink2Description: Digi-Key Listing; ComponentLink2URL: https://www.digikey.com/product-detail/en/samsung-electro-mechanics-america-inc/CL31B333JBCNNNC/1276-1774-2-ND/3887432; TemperatureCoefficient: X7R; Voltage: 50V; Price: 0.0365; Device Package: 1206 (3216 Metric)
footprint CAP 1206/3216 - 1.0MM
pins: 1, 2

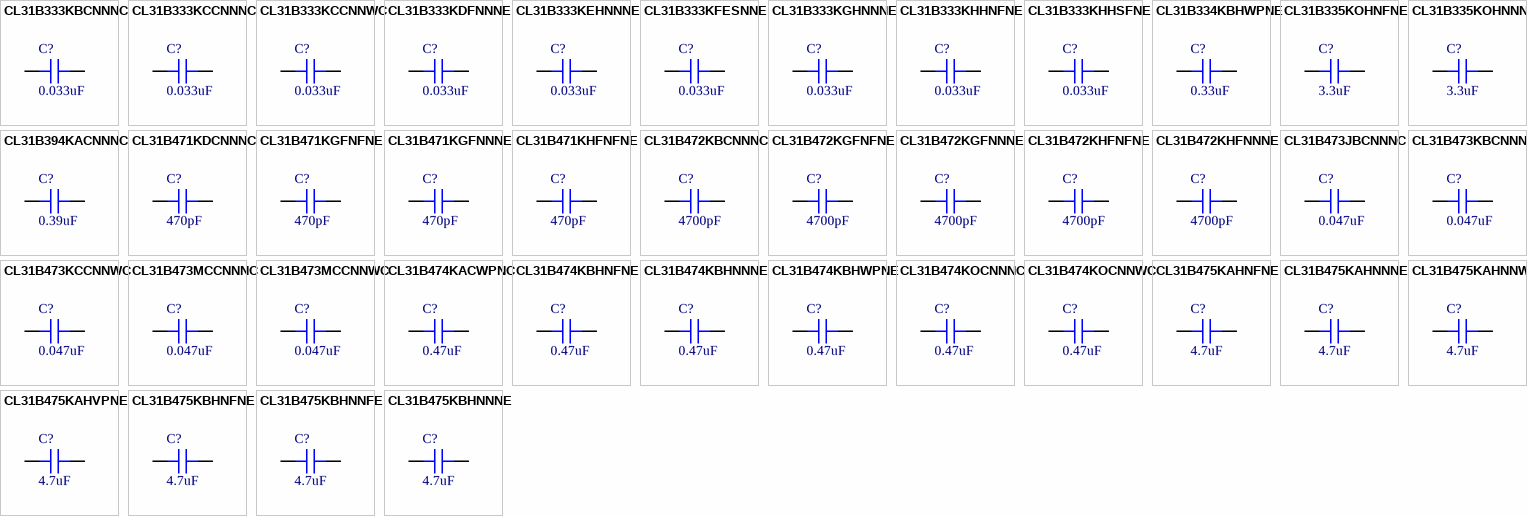
[diagram p28: symbols CL31B333KBCNNNC to CL31B475KBHNNNE]

## CL31B333KBCNNNC
designator C?, comment 0.033uF
CAP CER 0.033UF 50V X7R 1206; Part Number: CL31B333KBCNNNC; Manufacturer: Samsung Electro-Mechanics America, Inc.; TemperatureRange: -55C ~ 125C; Tolerance: 10%; Value: 0.033uF; PartId: 17307; Supplier 1: Digi-Key; Supplier Part Number 1: 1276-1805-2-ND; ComponentLink1Description: Datasheet; ComponentLink1URL: http://www.samsungsem.com/kr/support/product-search/mlcc/__icsFiles/afieldfile/2016/08/18/S_CL31B333KBCNNNC.pdf; ComponentLink2Description: Digi-Key Listing; ComponentLink2URL: https://www.digikey.com/product-detail/en/samsung-electro-mechanics-america-inc/CL31B333KBCNNNC/1276-1805-2-ND/3887463; TemperatureCoefficient: X7R; Voltage: 50V; Price: 0.0325; Device Package: 1206 (3216 Metric)
footprint CAP 1206/3216 - 1.0MM
pins: 1, 2

## CL31B333KCCNNNC
designator C?, comment 0.033uF
CAP CER 0.033UF 100V X7R 1206; Part Number: CL31B333KCCNNNC; Manufacturer: Samsung Electro-Mechanics America, Inc.; TemperatureRange: -55C ~ 125C; Tolerance: 10%; Value: 0.033uF; PartId: 17280; Supplier 1: Digi-Key; Supplier Part Number 1: 1276-1289-2-ND; ComponentLink1Description: Datasheet; ComponentLink1URL: //media.digikey.com/pdf/Data%20Sheets/Samsung%20PDFs/MLCC_Catalog_2015.pdf; ComponentLink2Description: Digi-Key Listing; ComponentLink2URL: https://www.digikey.com/product-detail/en/samsung-electro-mechanics-america-inc/CL31B333KCCNNNC/1276-1289-2-ND/3886947; TemperatureCoefficient: X7R; Voltage: 100V; Price: 0.0604; Device Package: 1206 (3216 Metric)
footprint CAP 1206/3216 - 1.0MM
pins: 1, 2

## CL31B333KCCNNWC
designator C?, comment 0.033uF
CAP CER 0.033UF 100V X7R 1206; Part Number: CL31B333KCCNNWC; Manufacturer: Samsung Electro-Mechanics America, Inc.; TemperatureRange: -55C ~ 125C; Tolerance: 10%; Value: 0.033uF; PartId: 17310; Supplier 1: Digi-Key; Supplier Part Number 1: 1276-2774-2-ND; ComponentLink1Description: Datasheet; ComponentLink1URL: //media.digikey.com/pdf/Data%20Sheets/Samsung%20PDFs/CL31B333KCCNNWC_Spec.pdf; ComponentLink2Description: Digi-Key Listing; ComponentLink2URL: https://www.digikey.com/product-detail/en/samsung-electro-mechanics-america-inc/CL31B333KCCNNWC/1276-2774-2-ND/3888432; TemperatureCoefficient: X7R; Voltage: 100V; Price: 0.0333; Device Package: 1206 (3216 Metric)
footprint CAP 1206/3216 - 1.0MM
pins: 1, 2

## CL31B333KDFNNNE
designator C?, comment 0.033uF
CAP CER 0.033UF 200V X7R 1206; Part Number: CL31B333KDFNNNE; Manufacturer: Samsung Electro-Mechanics America, Inc.; TemperatureRange: -55C ~ 125C; Tolerance: 10%; Value: 0.033uF; PartId: 15485; Supplier 1: Digi-Key; Supplier Part Number 1: 1276-3155-2-ND; ComponentLink1Description: Datasheet; ComponentLink1URL: //media.digikey.com/pdf/Data%20Sheets/Samsung%20PDFs/CL31B333KDFNNNE_Spec.pdf; ComponentLink2Description: Digi-Key Listing; ComponentLink2URL: https://www.digikey.com/product-detail/en/samsung-electro-mechanics-america-inc/CL31B333KDFNNNE/1276-3155-2-ND/3888813; TemperatureCoefficient: X7R; Voltage: 200V; Price: 0.0756; Device Package: 1206 (3216 Metric)
footprint CAP 1206/3216
pins: 1, 2

## CL31B333KEHNNNE
designator C?, comment 0.033uF
CAP CER 0.033UF 250V X7R 1206; Part Number: CL31B333KEHNNNE; Manufacturer: Samsung Electro-Mechanics America, Inc.; TemperatureRange: -55C ~ 125C; Tolerance: 10%; Value: 0.033uF; PartId: 17763; Supplier 1: Digi-Key; Supplier Part Number 1: 1276-6688-2-ND; ComponentLink1Description: Datasheet; ComponentLink1URL: //media.digikey.com/pdf/Data%20Sheets/Samsung%20PDFs/CL_Series_MLCC_ds.pdf; ComponentLink2Description: Digi-Key Listing; ComponentLink2URL: https://www.digikey.com/product-detail/en/samsung-electro-mechanics-america-inc/CL31B333KEHNNNE/1276-6688-2-ND/5961172; TemperatureCoefficient: X7R; Voltage: 250V; Price: 0.0559; Device Package: 1206 (3216 Metric)
footprint CAP 1206/3216 - 1.8MM
pins: 1, 2

## CL31B333KFESNNE
designator C?, comment 0.033uF
CAP CER 0.033UF 350V X7R 1206; Part Number: CL31B333KFESNNE; Manufacturer: Samsung Electro-Mechanics America, Inc.; TemperatureRange: -55C ~ 125C; Tolerance: 10%; Value: 0.033uF; PartId: 15441; Supplier 1: Digi-Key; Supplier Part Number 1: 1276-3156-2-ND; ComponentLink1Description: Datasheet; ComponentLink1URL: http://www.samsungsem.com/kr/support/product-search/mlcc/CL31B333KFESNNE.jsp; ComponentLink2Description: Digi-Key Listing; ComponentLink2URL: https://www.digikey.com/product-detail/en/samsung-electro-mechanics-america-inc/CL31B333KFESNNE/1276-3156-2-ND/3888814; TemperatureCoefficient: X7R; Voltage: 350V; Price: 0.0529; Device Package: 1206 (3216 Metric)
footprint CAP 1206/3216
pins: 1, 2

## CL31B333KGHNNNE
designator C?, comment 0.033uF
CAP CER 0.033UF 500V X7R 1206; Part Number: CL31B333KGHNNNE; Manufacturer: Samsung Electro-Mechanics America, Inc.; TemperatureRange: -55C ~ 125C; Tolerance: 10%; Value: 0.033uF; PartId: 15473; Supplier 1: Digi-Key; Supplier Part Number 1: 1276-3157-2-ND; ComponentLink1Description: Datasheet; ComponentLink1URL: //media.digikey.com/pdf/Data%20Sheets/Samsung%20PDFs/CL31B333KGHNNNE_Spec.pdf; ComponentLink2Description: Digi-Key Listing; ComponentLink2URL: https://www.digikey.com/product-detail/en/samsung-electro-mechanics-america-inc/CL31B333KGHNNNE/1276-3157-2-ND/3888815; TemperatureCoefficient: X7R; Voltage: 500V; Price: 0.0893; Device Package: 1206 (3216 Metric)
footprint CAP 1206/3216
pins: 1, 2

## CL31B333KHHNFNE
designator C?, comment 0.033uF
CAP CER 0.033UF 630V X7R 1206; Part Number: CL31B333KHHNFNE; Manufacturer: Samsung Electro-Mechanics America, Inc.; TemperatureRange: -55C ~ 125C; Tolerance: 10%; Value: 0.033uF; PartId: 15463; Supplier 1: Digi-Key; Supplier Part Number 1: 1276-3158-2-ND; ComponentLink1Description: Datasheet; ComponentLink1URL: //media.digikey.com/pdf/Data%20Sheets/Samsung%20PDFs/CL31B333KHHNFNE_Spec.pdf; ComponentLink2Description: Digi-Key Listing; ComponentLink2URL: https://www.digikey.com/product-detail/en/samsung-electro-mechanics-america-inc/CL31B333KHHNFNE/1276-3158-2-ND/3888816; TemperatureCoefficient: X7R; Voltage: 630V; Price: 0.07; Device Package: 1206 (3216 Metric)
footprint CAP 1206/3216
pins: 1, 2

## CL31B333KHHSFNE
designator C?, comment 0.033uF
CAP CER 0.033UF 630V X7R 1206; Part Number: CL31B333KHHSFNE; Manufacturer: Samsung Electro-Mechanics America, Inc.; TemperatureRange: -55C ~ 125C; Tolerance: 10%; Value: 0.033uF; PartId: 15457; Supplier 1: Digi-Key; Supplier Part Number 1: 1276-3159-2-ND; ComponentLink1Description: Datasheet; ComponentLink1URL: //media.digikey.com/pdf/Data%20Sheets/Samsung%20PDFs/CL31B333KHHSFNE_Character.pdf; ComponentLink2Description: Digi-Key Listing; ComponentLink2URL: https://www.digikey.com/product-detail/en/samsung-electro-mechanics-america-inc/CL31B333KHHSFNE/1276-3159-2-ND/3888817; TemperatureCoefficient: X7R; Voltage: 630V; Price: 0.0599; Device Package: 1206 (3216 Metric)
footprint CAP 1206/3216
pins: 1, 2

## CL31B334KBHWPNE
designator C?, comment 0.33uF
CAP CER 0.33UF 50V X7R 1206; Part Number: CL31B334KBHWPNE; Manufacturer: Samsung Electro-Mechanics America, Inc.; TemperatureRange: -55C ~ 125C; Tolerance: 10%; Value: 0.33uF; PartId: 17762; Supplier 1: Digi-Key; Supplier Part Number 1: 1276-6674-2-ND; ComponentLink1Description: Datasheet; ComponentLink1URL: //media.digikey.com/pdf/Data%20Sheets/Samsung%20PDFs/MLCC_Catalog_2015.pdf; ComponentLink2Description: Digi-Key Listing; ComponentLink2URL: https://www.digikey.com/product-detail/en/samsung-electro-mechanics-america-inc/CL31B334KBHWPNE/1276-6674-2-ND/5961158; TemperatureCoefficient: X7R; Voltage: 50V; Price: 0.0662; Device Package: 1206 (3216 Metric)
footprint CAP 1206/3216 - 1.8MM
pins: 1, 2

## CL31B335KOHNFNE
designator C?, comment 3.3uF
CAP CER 3.3UF 16V X7R 1206; Part Number: CL31B335KOHNFNE; Manufacturer: Samsung Electro-Mechanics America, Inc.; TemperatureRange: -55C ~ 125C; Tolerance: 10%; Value: 3.3uF; PartId: 17545; Supplier 1: Digi-Key; Supplier Part Number 1: 1276-3161-2-ND; ComponentLink1Description: Datasheet; ComponentLink1URL: //media.digikey.com/pdf/Data%20Sheets/Samsung%20PDFs/CL31B335KOHNFNE_Spec.pdf; ComponentLink2Description: Digi-Key Listing; ComponentLink2URL: https://www.digikey.com/product-detail/en/samsung-electro-mechanics-america-inc/CL31B335KOHNFNE/1276-3161-2-ND/3888819; TemperatureCoefficient: X7R; Voltage: 16V; Price: 0.1053; Device Package: 1206 (3216 Metric)
footprint CAP 1206/3216 - 1.8MM
pins: 1, 2

## CL31B335KOHNNNE
designator C?, comment 3.3uF
CAP CER 3.3UF 16V X7R 1206; Part Number: CL31B335KOHNNNE; Manufacturer: Samsung Electro-Mechanics America, Inc.; TemperatureRange: -55C ~ 125C; Tolerance: 10%; Value: 3.3uF; PartId: 6193; Supplier 1: Digi-Key; Supplier Part Number 1: 1276-1841-2-ND; ComponentLink1Description: Datasheet; ComponentLink1URL: http://www.samsungsem.com/kr/front/downloadcms.do?path=/kr/support/product-search/mlcc/__icsFiles/afieldfile/2014/11/05&fileName=C_CL31B335KOHNNNE.pdf; ComponentLink2Description: Digi-Key listing; ComponentLink2URL: http://digikey.com/product-detail/en/CL31B335KOHNNNE/1276-1841-2-ND/3887499; TemperatureCoefficient: X7R; Voltage: 16V; Price: 0.1004; Type: -; Device Package: 1206 (3216 Metric)
footprint CAP 1206/3216
pins: 1, 2

## CL31B394KACNNNC
designator C?, comment 0.39uF
CAP CER 0.39UF 25V X7R 1206; Part Number: CL31B394KACNNNC; Manufacturer: Samsung Electro-Mechanics America, Inc.; TemperatureRange: -55C ~ 125C; Tolerance: 10%; Value: 0.39uF; PartId: 17309; Supplier 1: Digi-Key; Supplier Part Number 1: 1276-2777-2-ND; ComponentLink1Description: Datasheet; ComponentLink1URL: http://www.samsungsem.com/kr/support/product-search/mlcc/__icsFiles/afieldfile/2016/08/18/S_CL31B394KACNNNC.pdf; ComponentLink2Description: Digi-Key Listing; ComponentLink2URL: https://www.digikey.com/product-detail/en/samsung-electro-mechanics-america-inc/CL31B394KACNNNC/1276-2777-2-ND/3888435; TemperatureCoefficient: X7R; Voltage: 25V; Price: 0.0421; Device Package: 1206 (3216 Metric)
footprint CAP 1206/3216 - 1.0MM
pins: 1, 2

## CL31B471KDCNNNC
designator C?, comment 470pF
CAP CER 470PF 200V X7R 1206; Part Number: CL31B471KDCNNNC; Manufacturer: Samsung Electro-Mechanics America, Inc.; TemperatureRange: -55C ~ 125C; Tolerance: 10%; Value: 470pF; PartId: 17105; Supplier 1: Digi-Key; Supplier Part Number 1: 1276-2780-2-ND; ComponentLink1Description: Datasheet; ComponentLink1URL: //media.digikey.com/pdf/Data%20Sheets/Samsung%20PDFs/CL31B471KDCNNNC_Spec.pdf; ComponentLink2Description: Digi-Key Listing; ComponentLink2URL: https://www.digikey.com/product-detail/en/samsung-electro-mechanics-america-inc/CL31B471KDCNNNC/1276-2780-2-ND/3888438; TemperatureCoefficient: X7R; Voltage: 200V; Price: 0.0402; Device Package: 1206 (3216 Metric)
footprint CAP 1206/3216 - 1.0MM
pins: 1, 2

## CL31B471KGFNFNE
designator C?, comment 470pF
CAP CER 470PF 500V X7R 1206; Part Number: CL31B471KGFNFNE; Manufacturer: Samsung Electro-Mechanics America, Inc.; TemperatureRange: -55C ~ 125C; Tolerance: 10%; Value: 470pF; PartId: 15439; Supplier 1: Digi-Key; Supplier Part Number 1: 1276-3162-2-ND; ComponentLink1Description: Datasheet; ComponentLink1URL: //media.digikey.com/pdf/Data%20Sheets/Samsung%20PDFs/CL31B471KGFNFNE_Spec.pdf; ComponentLink2Description: Digi-Key Listing; ComponentLink2URL: https://www.digikey.com/product-detail/en/samsung-electro-mechanics-america-inc/CL31B471KGFNFNE/1276-3162-2-ND/3888820; TemperatureCoefficient: X7R; Voltage: 500V; Price: 0.0521; Device Package: 1206 (3216 Metric)
footprint CAP 1206/3216
pins: 1, 2

## CL31B471KGFNNNE
designator C?, comment 470pF
CAP CER 470PF 500V X7R 1206; Part Number: CL31B471KGFNNNE; Manufacturer: Samsung Electro-Mechanics America, Inc.; TemperatureRange: -55C ~ 125C; Tolerance: 10%; Value: 470pF; PartId: 15435; Supplier 1: Digi-Key; Supplier Part Number 1: 1276-3163-2-ND; ComponentLink1Description: Datasheet; ComponentLink1URL: //media.digikey.com/pdf/Data%20Sheets/Samsung%20PDFs/CL31B471KGFNNNE_Spec.pdf; ComponentLink2Description: Digi-Key Listing; ComponentLink2URL: https://www.digikey.com/product-detail/en/samsung-electro-mechanics-america-inc/CL31B471KGFNNNE/1276-3163-2-ND/3888821; TemperatureCoefficient: X7R; Voltage: 500V; Price: 0.0443; Device Package: 1206 (3216 Metric)
footprint CAP 1206/3216
pins: 1, 2

## CL31B471KHFNFNE
designator C?, comment 470pF
CAP CER 470PF 630V X7R 1206; Part Number: CL31B471KHFNFNE; Manufacturer: Samsung Electro-Mechanics America, Inc.; TemperatureRange: -55C ~ 125C; Tolerance: 10%; Value: 470pF; PartId: 15501; Supplier 1: Digi-Key; Supplier Part Number 1: 1276-3164-2-ND; ComponentLink1Description: Datasheet; ComponentLink1URL: //media.digikey.com/pdf/Data%20Sheets/Samsung%20PDFs/CL31B471KHFNFNE_Character.pdf; ComponentLink2Description: Digi-Key Listing; ComponentLink2URL: https://www.digikey.com/product-detail/en/samsung-electro-mechanics-america-inc/CL31B471KHFNFNE/1276-3164-2-ND/3888822; TemperatureCoefficient: X7R; Voltage: 630V; Price: 0.0802; Device Package: 1206 (3216 Metric)
footprint CAP 1206/3216
pins: 1, 2